# Altium schematic symbol library MOSFET N-CH DUAL NTTFD4D0N04HLTWG.Schlib: 1 symbol
Pins are listed as number, name and electrical type; pins without a type are passive.

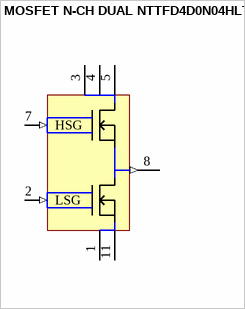
[diagram p0: symbol MOSFET N-CH DUAL NTTFD4D0N04HLTWG]

## MOSFET N-CH DUAL NTTFD4D0N04HLTWG
designator Q?, comment N-CH Dual SW Node
MOSFET N+N COMMON PHASE SW 40V 60A
footprint 12-PowerWQFN (MOSFET DUAL SWITCHING N CHANNEL)
pins: 1 GND (power), 2 LSG (in), 3 V+ (power), 4 V+ (power), 5 V+ (power), 7 HSG (in), 8 SW (out), 11 GND (power)